# EAGLE library part LM22678 (library PP_PowerIC)
Manufacturer Part #: LM22678 Manufacturer: Texas Instruments Description: Voltage Regulators - Switching Regulators 5A STEP-DOWN VLTG REG
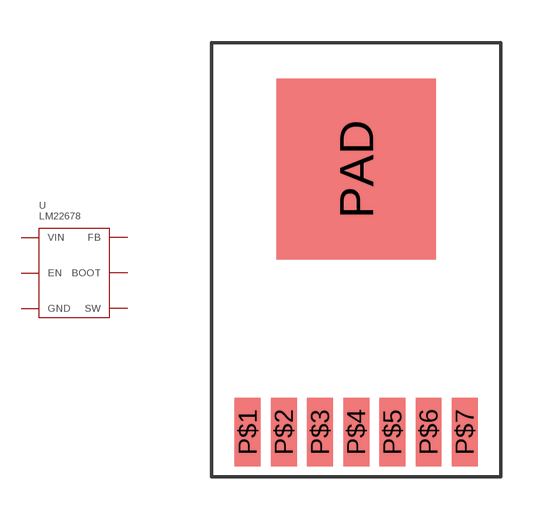
[diagram p7: symbol with the pads of LM22678_TO-263-EP-7; footprint LM22678_TO-263-EP-7]

Designator prefix U

## LM22678  [LM22678_TO-263-EP-7]
P$1  SW
P$2  VIN
P$3  BOOT
P$4  GND
P$6  FB
P$7  EN
PAD  GND

## Footprint LM22678_TO-263-EP-7 (pad centres in mm)
smd 0.91 x 2.41: P$1 -3.81,-12.4; P$2 -2.54,-12.4; P$3 -1.27,-12.4; P$4 0,-12.4; P$5 1.27,-12.4; P$6 2.54,-12.4; P$7 3.81,-12.4
smd 5.59 x 6.35: PAD 0,-3.175